# EAGLE library part PD2 (library divers)
Potentiometer digital, up/down steps MRXC25 / MRXCT25 (Megatron) TTL output, 2 channels, integrated switch
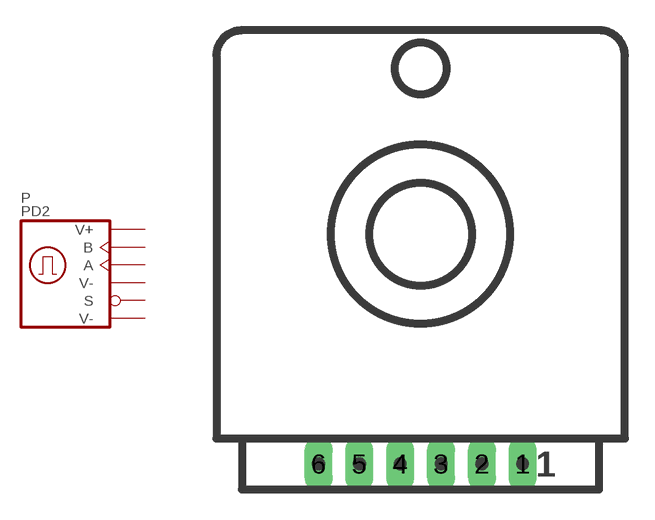
[diagram p19: symbol with the pads of PD2N; footprint PD2N]

Designator prefix P

## PD2  [PD2N]
1  V+  pwr
2  B  out
3  A  out
4  V-  pwr
5  S  out
6  V-  pwr

## Footprint PD2N (pad centres in mm)
Potentiometer digital MRXC25 / MRXCT25 (Megatron) TTL output, 2 channels, integrated switch
drill 0.813 pad 1.397 long: 1 5.08,-11.43; 2 3.048,-11.43; 3 1.016,-11.43; 4 -1.016,-11.43; 5 -3.048,-11.43; 6 -5.08,-11.43